# Altium schematic symbol library 163-179PH-EX.SchLib: 1 symbol
Pins are listed as number, name and electrical type; pins without a type are passive.

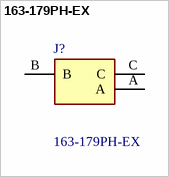
[diagram p0: symbol 163-179PH-EX]

## 163-179PH-EX
designator J?
DC Power Connectors PCB 2.1MM; Manufacturer_Name: Kobiconn; Geometry.Height: 11mm; Mouser Part Number: 163-179PH-EX; Mouser Price/Stock: https://www.mouser.co.uk/ProductDetail/Kobiconn/163-179PH-EX?qs=Xb8IjHhkxj5l2UOaIqcGCw%3D%3D; Manufacturer_Part_Number: 163-179PH-EX; Datasheet Link: https://componentsearchengine.com/Datasheets/1/163-179PH-EX.pdf
footprint 163179PHEX
pins: A, B, C